# EAGLE library part XL6007E1 (library XL6007E1)
XL6007E1 voltage regulator
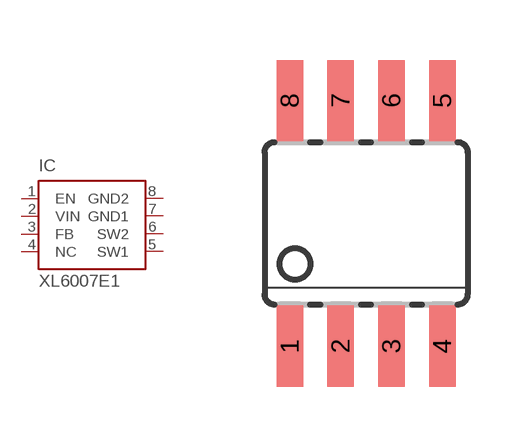
[diagram p0: symbol with the pads of SOIC08; footprint SOIC08]

Designator prefix IC

## XL6007E1-SOIC (OC_FARNELL: unknown; OC_NEWARK: unknown)  [SOIC08]
1  EN  in
2  VIN  pwr
3  FB
4  NC  nc
5  SW1  pwr
6  SW2  pwr
7  GND1  pwr
8  GND2  pwr

## Footprint SOIC08 (pad centres in mm)
Small Outline Package
smd 0.66 x 2.032: 1 -1.905,-3.073; 2 -0.635,-3.073; 3 0.635,-3.073; 4 1.905,-3.073; 5 1.905,3.073; 6 0.635,3.073; 7 -0.635,3.073; 8 -1.905,3.073